# Altium schematic symbol library SCH - DIGITAL ISOLATOR - ANALOG DEVICES ADUM5241ARZ-RL.SCHLIB: 1 symbol
Pins are listed as number, name and electrical type; pins without a type are passive.

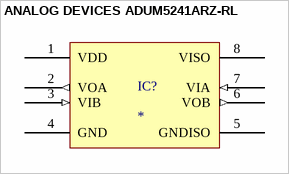
[diagram p0: symbol ANALOG DEVICES ADUM5241ARZ-RL]

## ANALOG DEVICES ADUM5241ARZ-RL
designator IC?
pins: 1 VDD, 2 VOA (out), 3 VIB (in), 4 GND, 5 GNDISO, 6 VOB (out), 7 VIA (in), 8 VISO